# EAGLE library part PINHEAD_2X04 (library pinhead)
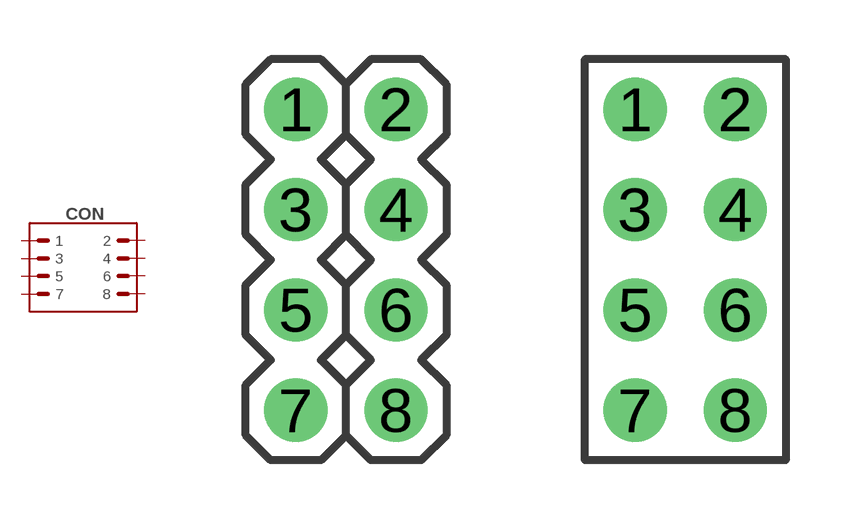
[diagram p27: symbol with the pads of 2X04-PTH-2.54; footprints 2X04-PTH-2.54, PBD-8]

Designator prefix CON

## PINHEAD_2X04-PLS  [2X04-PTH-2.54]
1  1  pas
2  2  pas
3  3  pas
4  4  pas
5  5  pas
6  6  pas
7  7  pas
8  8  pas

## PINHEAD_2X04-PBD  [PBD-8]
Pads as for 2X04-PTH-2.54

## PINHEAD_2X04-PLD-SMD-2  [2X04-SMD-2]
Pads as for 2X04-PTH-2.54

## PINHEAD_2X04-SMD-2-MALE (DIGIKEY#: WM14802-ND; MANF: Molex; MANF#: 0877590814)  [2X04-SMD-2-MALE]
Pads as for 2X04-PTH-2.54

## PINHEAD_2X04-PLS-2  [2X04-PTH-2]
Pads as for 2X04-PTH-2.54

## PINHEAD_2X04-PLS-2-RA (MANF: SULLINS; MANF#: NRPN042PARN-RC)  [2X04-PTH-2-RA]
Pads as for 2X04-PTH-2.54

## PINHEAD_2X04-ZX-PM1.0-2-4PU-W  [ZX-PM1.0-2-4PU-W]
Pads as for 2X04-PTH-2.54

## PINHEAD_2X04-ZX-PZ1.0-2-4*PWZ  [ZX-PZ1.0-2-4*PWZ]
Pads as for 2X04-PTH-2.54

## Footprint 2X04-PTH-2.54 (pad centres in mm)
drill 0.9 pad 1.6: 1 -1.27,3.81; 2 1.27,3.81; 3 -1.27,1.27; 4 1.27,1.27; 5 -1.27,-1.27; 6 1.27,-1.27; 7 -1.27,-3.81; 8 1.27,-3.81

## Footprint PBD-8 (pad centres in mm)
drill 0.9 pad 1.6: 1 -1.27,3.81; 2 1.27,3.81; 3 -1.27,1.27; 4 1.27,1.27; 5 -1.27,-1.27; 6 1.27,-1.27; 7 -1.27,-3.81; 8 1.27,-3.81

## Footprint 2X04-SMD-2 (pad centres in mm)
smd 1 x 3: 1 -3,2.3; 2 -3,-2.3; 3 -1,2.3; 4 -1,-2.3; 5 1,2.3; 6 1,-2.3; 7 3,2.3; 8 3,-2.3
hole 1.2 at -2,0
hole 1.2 at 2,0

## Footprint 2X04-SMD-2-MALE (pad centres in mm)
Drawing <https://www.molex.com/pdm_docs/sd/791091012_sd.pdf>
smd 1.9 x 1.12: 1 -2.35,3; 2 2.35,3; 3 -2.35,1; 4 2.35,1; 5 -2.35,-1; 6 2.35,-1; 7 -2.35,-3; 8 2.35,-3

## Footprint 2X04-PTH-2 (pad centres in mm)
drill 0.8 pad 1.4: 1 -1,3; 2 1,3; 3 -1,1; 4 1,1; 5 -1,-1; 6 1,-1; 7 -1,-3; 8 1,-3

## Footprint 2X04-PTH-2-RA (pad centres in mm)
drill 0.8 pad 1.4: 1 -3,-1; 2 -3,1; 3 -1,-1; 4 -1,1; 5 1,-1; 6 1,1; 7 3,-1; 8 3,1

## Footprint ZX-PM1.0-2-4PU-W (pad centres in mm)
smd 1.8 x 0.6: 1 -1.5,1.5; 2 1.5,1.5; 3 -1.5,0.5; 4 1.5,0.5; 5 -1.5,-0.5; 6 1.5,-0.5; 7 -1.5,-1.5; 8 1.5,-1.5

## Footprint ZX-PZ1.0-2-4*PWZ (pad centres in mm)
Drawing <https://www.lcsc.com/datasheet/lcsc_datasheet_2411220026_Megastar-ZX-PZ1-0-2-10PWZ_C41370704.pdf>
smd 2.4 x 0.56: 1 -1.8,1.5; 2 1.8,1.5; 3 -1.8,0.5; 4 1.8,0.5; 5 -1.8,-0.5; 6 1.8,-0.5; 7 -1.8,-1.5; 8 1.8,-1.5